# EAGLE library part 74*112 (library iStivi - ICs)
Dual J-K negative edge triggered FLIP FLOP, preset and clear
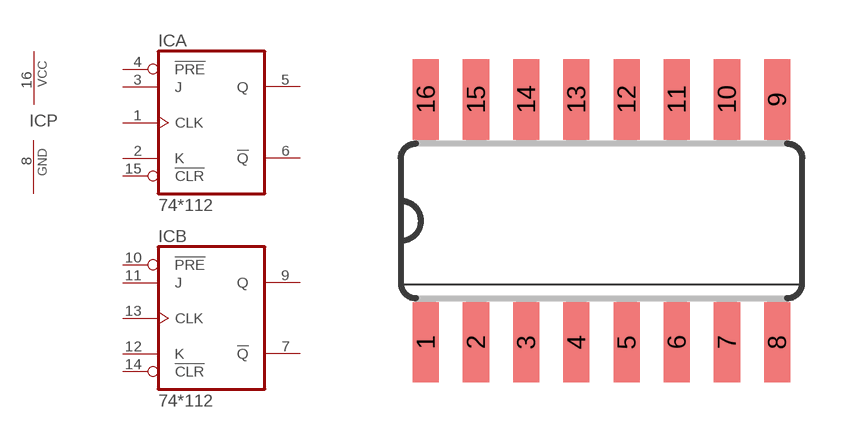
[diagram p10: symbol with the pads of SO16; footprint SO16]

Designator prefix IC; gates A=74112 B=74112 P=PWRN

## 74LS112D  [SO16]
1  A:CLK  in
2  A:K  in
3  A:J  in
4  A:!PRE  in
5  A:Q  out
6  A:!Q  out
7  B:!Q  out
8  P:GND  pwr
9  B:Q  out
10  B:!PRE  in
11  B:J  in
12  B:K  in
13  B:CLK  in
14  B:!CLR  in
15  A:!CLR  in
16  P:VCC  pwr

## Footprint SO16 (pad centres in mm)
Small Outline package 150 mil
smd 0.66 x 2.032: 1 -4.445,-3.073; 2 -3.175,-3.073; 3 -1.905,-3.073; 4 -0.635,-3.073; 5 0.635,-3.073; 6 1.905,-3.073; 7 3.175,-3.073; 8 4.445,-3.073; 9 4.445,3.073; 10 3.175,3.073; 11 1.905,3.073; 12 0.635,3.073; 13 -0.635,3.073; 14 -1.905,3.073; 15 -3.175,3.073; 16 -4.445,3.073